# Altium footprint library Richtek, RT2862xSP, SOP-8.PcbLib: 1 footprints
Each footprint in its own frame and in the unit in brackets; x right, y up, seen from the top. Pads: shape width x height; smd on the part's side, far side on the other; paste and mask are expansions set on the pad; w line width, h text height; cw(c..) or ccw(c..) is an arc to the next point about the centre after c.
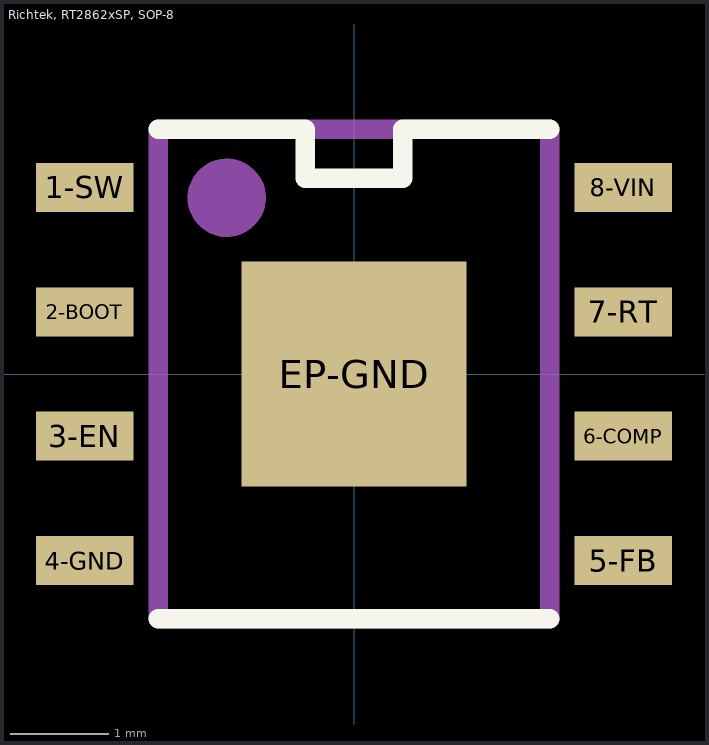
[diagram p0: the footprint, top view; thin cyan lines are the x and y axes]

## Richtek, RT2862xSP, SOP-8 [mm] "Richtek, RT2862xSP, SOP-8"
height 1.6
pads (9):
  rect 1x0.5 smd mask+0.05: 1-SW(-2.75,1.905) 2-BOOT(-2.75,0.635) 3-EN(-2.75,-0.635) 4-GND(-2.75,-1.905) 5-FB(2.75,-1.905) 6-COMP(2.75,-0.635) 7-RT(2.75,0.635) 8-VIN(2.75,1.905)
  rect 2.3x2.3 smd paste-0.35 mask+0.05: EP-GND(0,0)
Top Overlay:
  lines w0.2: -2,-2.5 2,-2.5 ; -2,2.5 -0.5,2.5 -0.5,2 0.5,2 0.5,2.5 2,2.5
Top Assembly:
  circle w0.4: c-1.3,1.8 r0.2
  lines w0.2: -2,-2.5 2,-2.5 2,2.5 -2,2.5 -2,-2.5
Top Designator:
  text ".Designator" at -3,-4.125 h2
Top Component Center:
  lines w0.2: -1,0 1,0 ; 0,-1 0,1
3D body "SOP-8.step": height 1.6, standoff 0, extent -3.021,-2.51 3.021,2.51